# Altium footprint library crystal-footprint.PcbLib: 1 footprints
Each footprint in its own frame and in the unit in brackets; x right, y up, seen from the top. Pads: shape width x height; smd on the part's side, far side on the other; paste and mask are expansions set on the pad; w line width, h text height; cw(c..) or ccw(c..) is an arc to the next point about the centre after c.
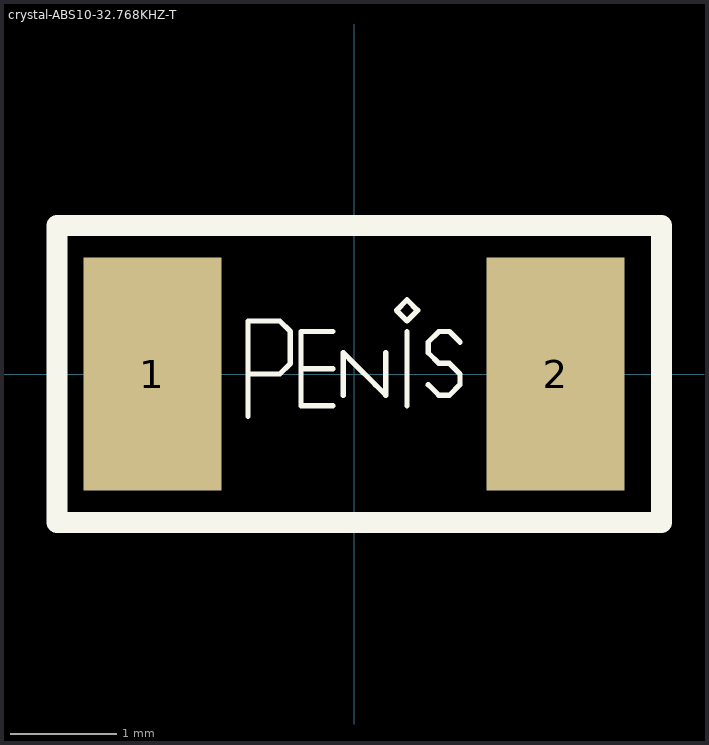
[diagram p0: the footprint, top view; thin cyan lines are the x and y axes]

## crystal-ABS10-32.768KHZ-T [mm]
pads (2):
  rect 1.3x2.2 smd: 1(-1.9,0) 2(1.9,0)
Top Overlay:
  lines w0.05: -1,-0.4 -1,0.5 -0.7,0.5 -0.6,0.4 -0.6,0.1 -0.7,0 -1,0 ; -0.5,0.05 -0.2,0.05 ; -0.2,-0.3 -0.5,-0.3 -0.5,0.4 -0.2,0.4 ; -0.1,-0.2 -0.1,0.2 0,0.1 0.2,-0.1 0.3,-0.2 0.3,0.2 ; 0.5,-0.3 0.5,0.4 ; 0.7,-0.1 0.8,-0.2 0.9,-0.2 1,-0.1 1,0 0.9,0.1 0.8,0.1 0.7,0.2 0.7,0.3 0.8,0.4 0.9,0.4 1,0.3 ; 0.4,0.6 0.5,0.5 0.6,0.6 0.5,0.7 0.4,0.6
  lines w0.2: -2.8,-1.4 2.9,-1.4 2.9,1.4 -2.8,1.4 -2.8,-1.4